# Altium integrated library 球球库.IntLib: 14 symbols
Pins are listed as number, name and electrical type; pins without a type are passive.

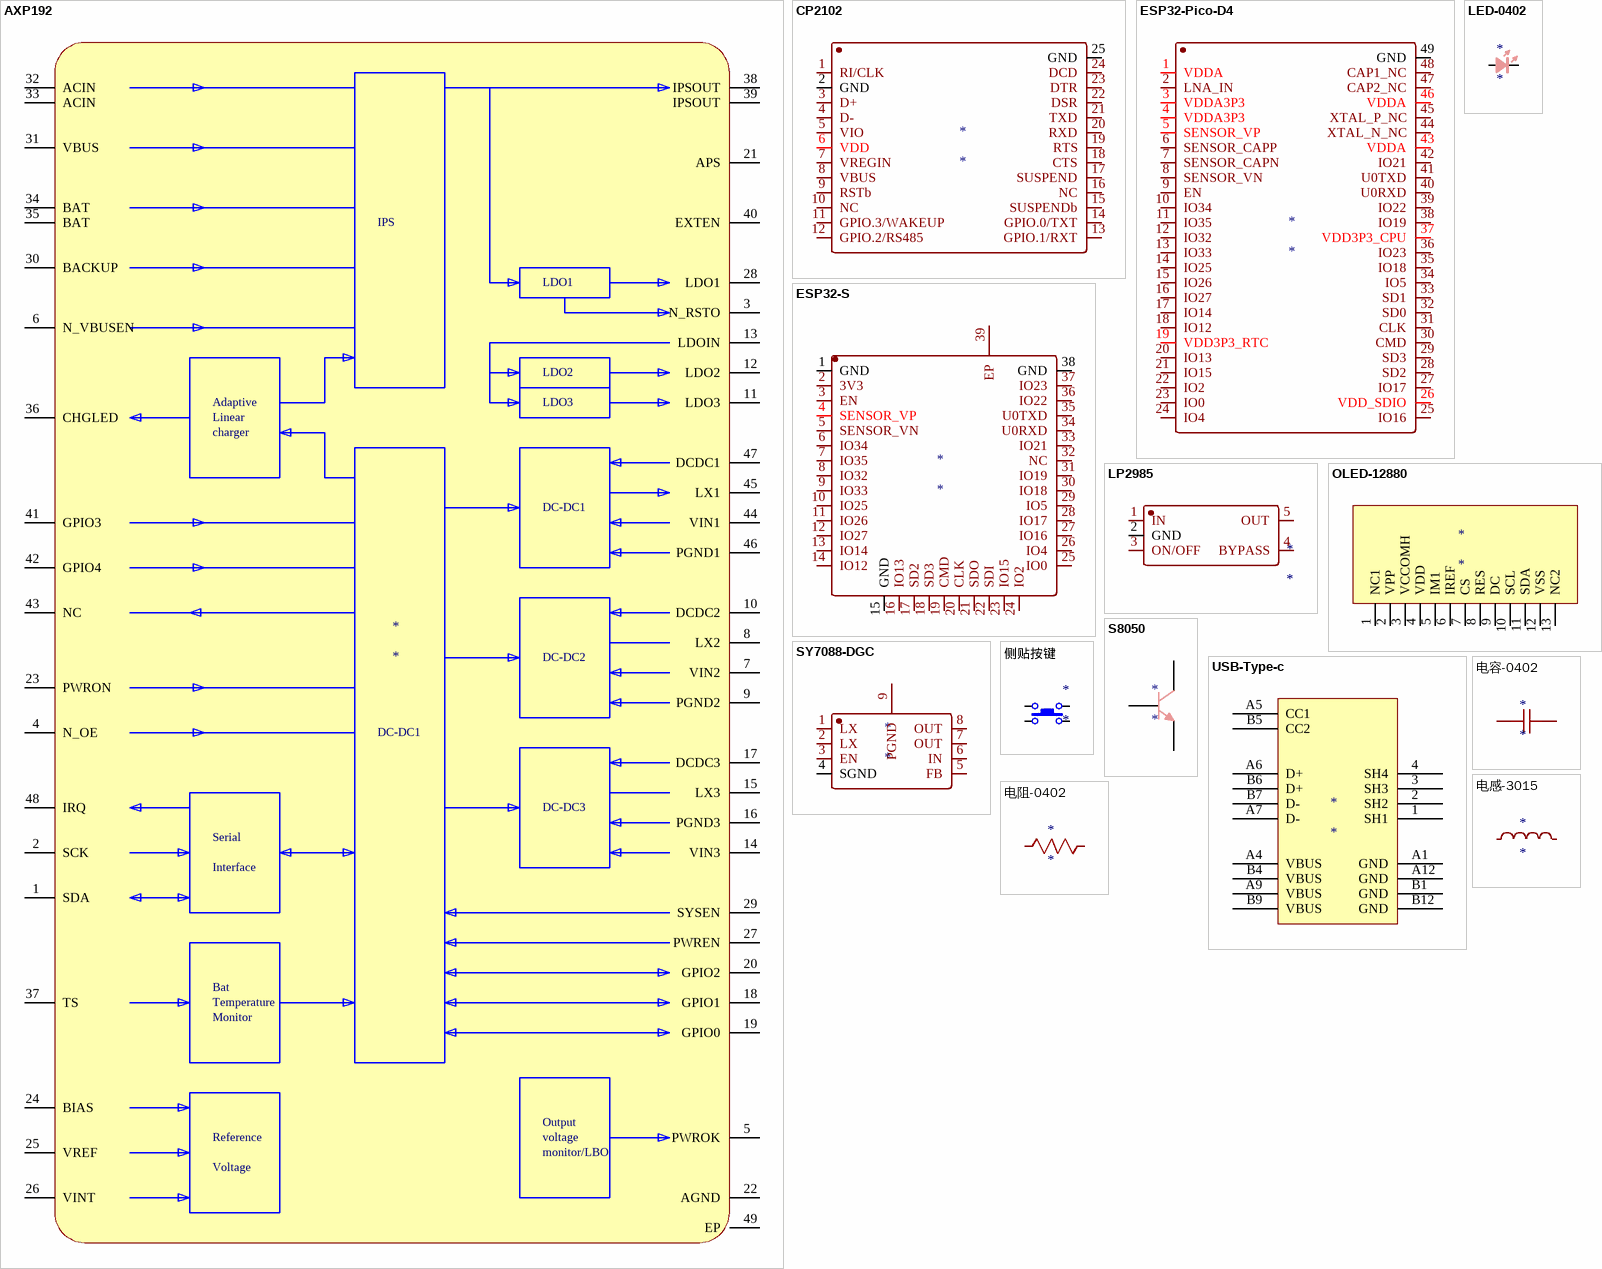
[diagram p0: symbols AXP192 to 电阻-0402]

## AXP192
designator *
footprint QFN-48_6x6
pins: 1 SDA, 2 SCK, 3 N_RSTO, 4 N_OE, 5 PWROK, 6 N_VBUSEN, 7 VIN2, 8 LX2, 9 PGND2, 10 DCDC2, 11 LDO3, 12 LDO2, 13 LDOIN, 14 VIN3, 15 LX3, 16 PGND3, 17 DCDC3, 18 GPIO1, 19 GPIO0, 20 GPIO2, 21 APS, 22 AGND, 23 PWRON, 24 BIAS, 25 VREF, 26 VINT, 27 PWREN, 28 LDO1, 29 SYSEN, 30 BACKUP, 31 VBUS, 32 ACIN, 33 ACIN, 34 BAT, 35 BAT, 36 CHGLED, 37 TS, 38 IPSOUT, 39 IPSOUT, 40 EXTEN, 41 GPIO3, 42 GPIO4, 43 NC, 44 VIN1, 45 LX1, 46 PGND1, 47 DCDC1, 48 IRQ, 49 EP
text: IPS; Adaptive; Linear; charger; DC-DC1; DC-DC2; DC-DC3; Serial; Interface; Bat; Temperature; Monitor; Output; Reference; voltage; monitor/LBO; Voltage

## CP2102
designator *
是QFN-24那个！！！
footprint QFN-24
pins: 1 RI/CLK, 2 GND, 3 D+, 4 D-, 5 VIO, 6 VDD, 7 VREGIN, 8 VBUS, 9 RSTb, 10 NC, 11 GPIO.3/WAKEUP, 12 GPIO.2/RS485, 13 GPIO.1/RXT, 14 GPIO.0/TXT, 15 SUSPENDb, 16 NC, 17 SUSPEND, 18 CTS, 19 RTS, 20 RXD, 21 TXD, 22 DSR, 23 DTR, 24 DCD, 25 GND

## ESP32-Pico-D4
designator *
footprint QFN-48_7X7
pins: 1 VDDA, 2 LNA_IN, 3 VDDA3P3, 4 VDDA3P3, 5 SENSOR_VP, 6 SENSOR_CAPP, 7 SENSOR_CAPN, 8 SENSOR_VN, 9 EN, 10 IO34, 11 IO35, 12 IO32, 13 IO33, 14 IO25, 15 IO26, 16 IO27, 17 IO14, 18 IO12, 19 VDD3P3_RTC, 20 IO13, 21 IO15, 22 IO2, 23 IO0, 24 IO4, 25 IO16, 26 VDD_SDIO, 27 IO17, 28 SD2, 29 SD3, 30 CMD, 31 CLK, 32 SD0, 33 SD1, 34 IO5, 35 IO18, 36 IO23, 37 VDD3P3_CPU, 38 IO19, 39 IO22, 40 U0RXD, 41 U0TXD, 42 IO21, 43 VDDA, 44 XTAL_N_NC, 45 XTAL_P_NC, 46 VDDA, 47 CAP2_NC, 48 CAP1_NC, 49 GND

## ESP32-S
designator *
footprint ESP32-S
pins: 1 GND, 2 3V3, 3 EN, 4 SENSOR_VP, 5 SENSOR_VN, 6 IO34, 7 IO35, 8 IO32, 9 IO33, 10 IO25, 11 IO26, 12 IO27, 13 IO14, 14 IO12, 15 GND, 16 IO13, 17 SD2, 18 SD3, 19 CMD, 20 CLK, 21 SDO, 22 SDI, 23 IO15, 24 IO2, 25 IO0, 26 IO4, 27 IO16, 28 IO17, 29 IO5, 30 IO18, 31 IO19, 32 NC, 33 IO21, 34 U0RXD, 35 U0TXD, 36 IO22, 37 IO23, 38 GND, 39 EP

## LED-0402
designator *
footprint LED-0402
pins: 1 A, 2 K

## LP2985
designator *
有多种电压版本，自己看对应电压的
footprint SOT23-5
pins: 1 IN, 2 GND, 3 ON/OFF, 4 BYPASS, 5 OUT

## OLED-12880
designator *
footprint OLED-12880
pins: 1 NC1, 2 VPP, 3 VCCOMH, 4 VDD, 5 IM1, 6 IREF, 7 CS, 8 RES, 9 DC, 10 SCL, 11 SDA, 12 VSS, 13 NC2

## S8050
designator *
footprint SOT22-3
pins: 1 B, 2 E, 3 C

## SY7088-DGC
designator *
footprint DFN-8_L3.0-W2.0
pins: 1 LX, 2 LX, 3 EN, 4 SGND, 5 FB, 6 IN, 7 OUT, 8 OUT, 9 PGND

## USB-Type-c
designator *
footprint USB-Type-C
pins: 1 SH1, 2 SH2, 3 SH3, 4 SH4, A1 GND, A4 VBUS, A5 CC1, A6 D+, A7 D-, A9 VBUS, A12 GND, B1 GND, B4 VBUS, B5 CC2, B6 D+, B7 D-, B9 VBUS, B12 GND

## 侧贴按键
designator *
footprint Button-TACT_3.5*3.55_90
pins: 1, 2, 3, 4

## 电容-0402
designator *
footprint 电容-0402
pins: 1, 2

## 电感-3015
designator *
footprint 电感-3015
pins: 1, 2

## 电阻-0402
designator *
footprint 电阻-0402
pins: 1, 2